# EAGLE library part STM32-JTAG-10P (library Pygmy)
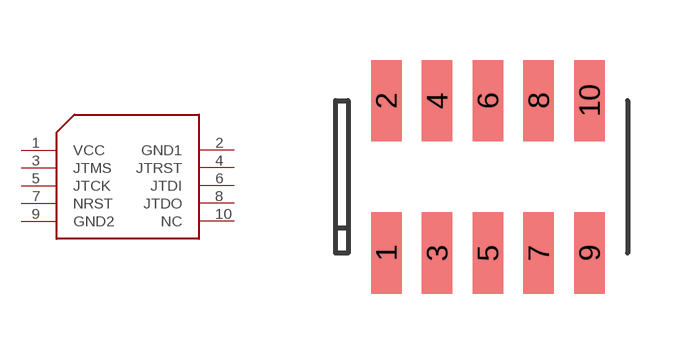
[diagram p14: symbol with the pads of STM32-JTAG-10P; footprint STM32-JTAG-10P]

Designator prefix -

## STM32-JTAG-10P  [STM32-JTAG-10P]
1  VCC
2  GND1
3  JTMS
4  JTRST
5  JTCK
6  JTDI
7  NRST
8  JTDO
9  GND2
10  NC

## STM32-JTAG-10PADAPTER(INVERTED)  [STM32-JTAG-10P]
1  GND1
2  VCC
3  JTRST
4  JTMS
5  JTDI
6  JTCK
7  JTDO
8  NRST
9  NC
10  GND2

## Footprint STM32-JTAG-10P (pad centres in mm)
smd 0.762 x 2.032: 1 0,0; 2 0,3.81; 3 1.27,0; 4 1.27,3.81; 5 2.54,0; 6 2.54,3.81; 7 3.81,0; 8 3.81,3.81; 9 5.08,0; 10 5.08,3.81